# EAGLE library part MCP4011 (library led_matrix_master_lib)
IC DGTL POT 50K 1CH 8MSOP
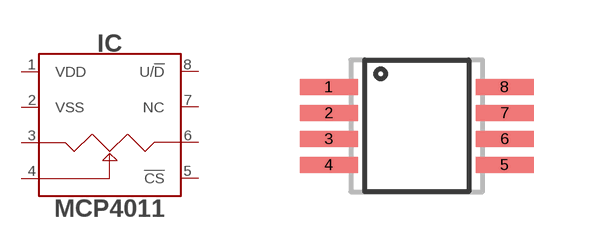
[diagram p8: symbol with the pads of MSOP8; footprint MSOP8]

Designator prefix IC

## MCP4011-MSOP8 (DIGIKEY#: MCP4011-503E/MS-ND; MANF: Microchip Technology; MANF#: MCP4011-503E/MS)  [MSOP8]
1  VDD
2  VSS
3  A
4  W
5  !CS
6  B
7  NC
8  U/!D

## Footprint MSOP8 (pad centres in mm)
smd 1.45 x 0.4: 1 -2.2,0.975; 2 -2.2,0.325; 3 -2.2,-0.325; 4 -2.2,-0.975; 5 2.2,-0.975; 6 2.2,-0.325; 7 2.2,0.325; 8 2.2,0.975